# Altium schematic symbol library IC_SI702x.SchLib: 1 symbol
Pins are listed as number, name and electrical type; pins without a type are passive.

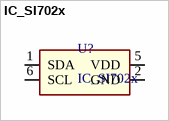
[diagram p0: symbol IC_SI702x]

## IC_SI702x
designator U?
pins: 1 SDA, 2 GND, 5 VDD, 6 SCL